# Altium schematic symbol library STM8L051F3.SchLib: 1 symbol
Pins are listed as number, name and electrical type; pins without a type are passive.

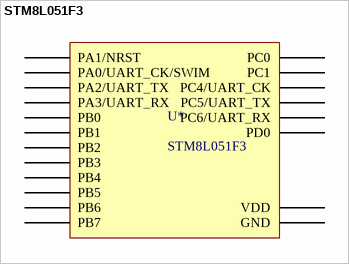
[diagram p0: symbol STM8L051F3]

## STM8L051F3
designator U*
footprint TSOP65P630X120-20N (TSOP, 20-Leads, Body 6,45x4,35mm, Pitch 0,65mm, IPC Medium Density)
pins: 1 PC5/UART_TX, 2 PC6/UART_RX, 3 PA0/UART_CK/SWIM, 4 PA1/NRST, 5 PA2/UART_TX, 6 PA3/UART_RX, 7 GND, 8 VDD, 9 PD0, 10 PB0, 11 PB1, 12 PB2, 13 PB3, 14 PB4, 15 PB5, 16 PB6, 17 PB7, 18 PC0, 19 PC1, 20 PC4/UART_CK